# Altium schematic symbol library kmilo17pet-LT_PMIC_LT.SchLib: 2252 symbols (part 109 of 124)
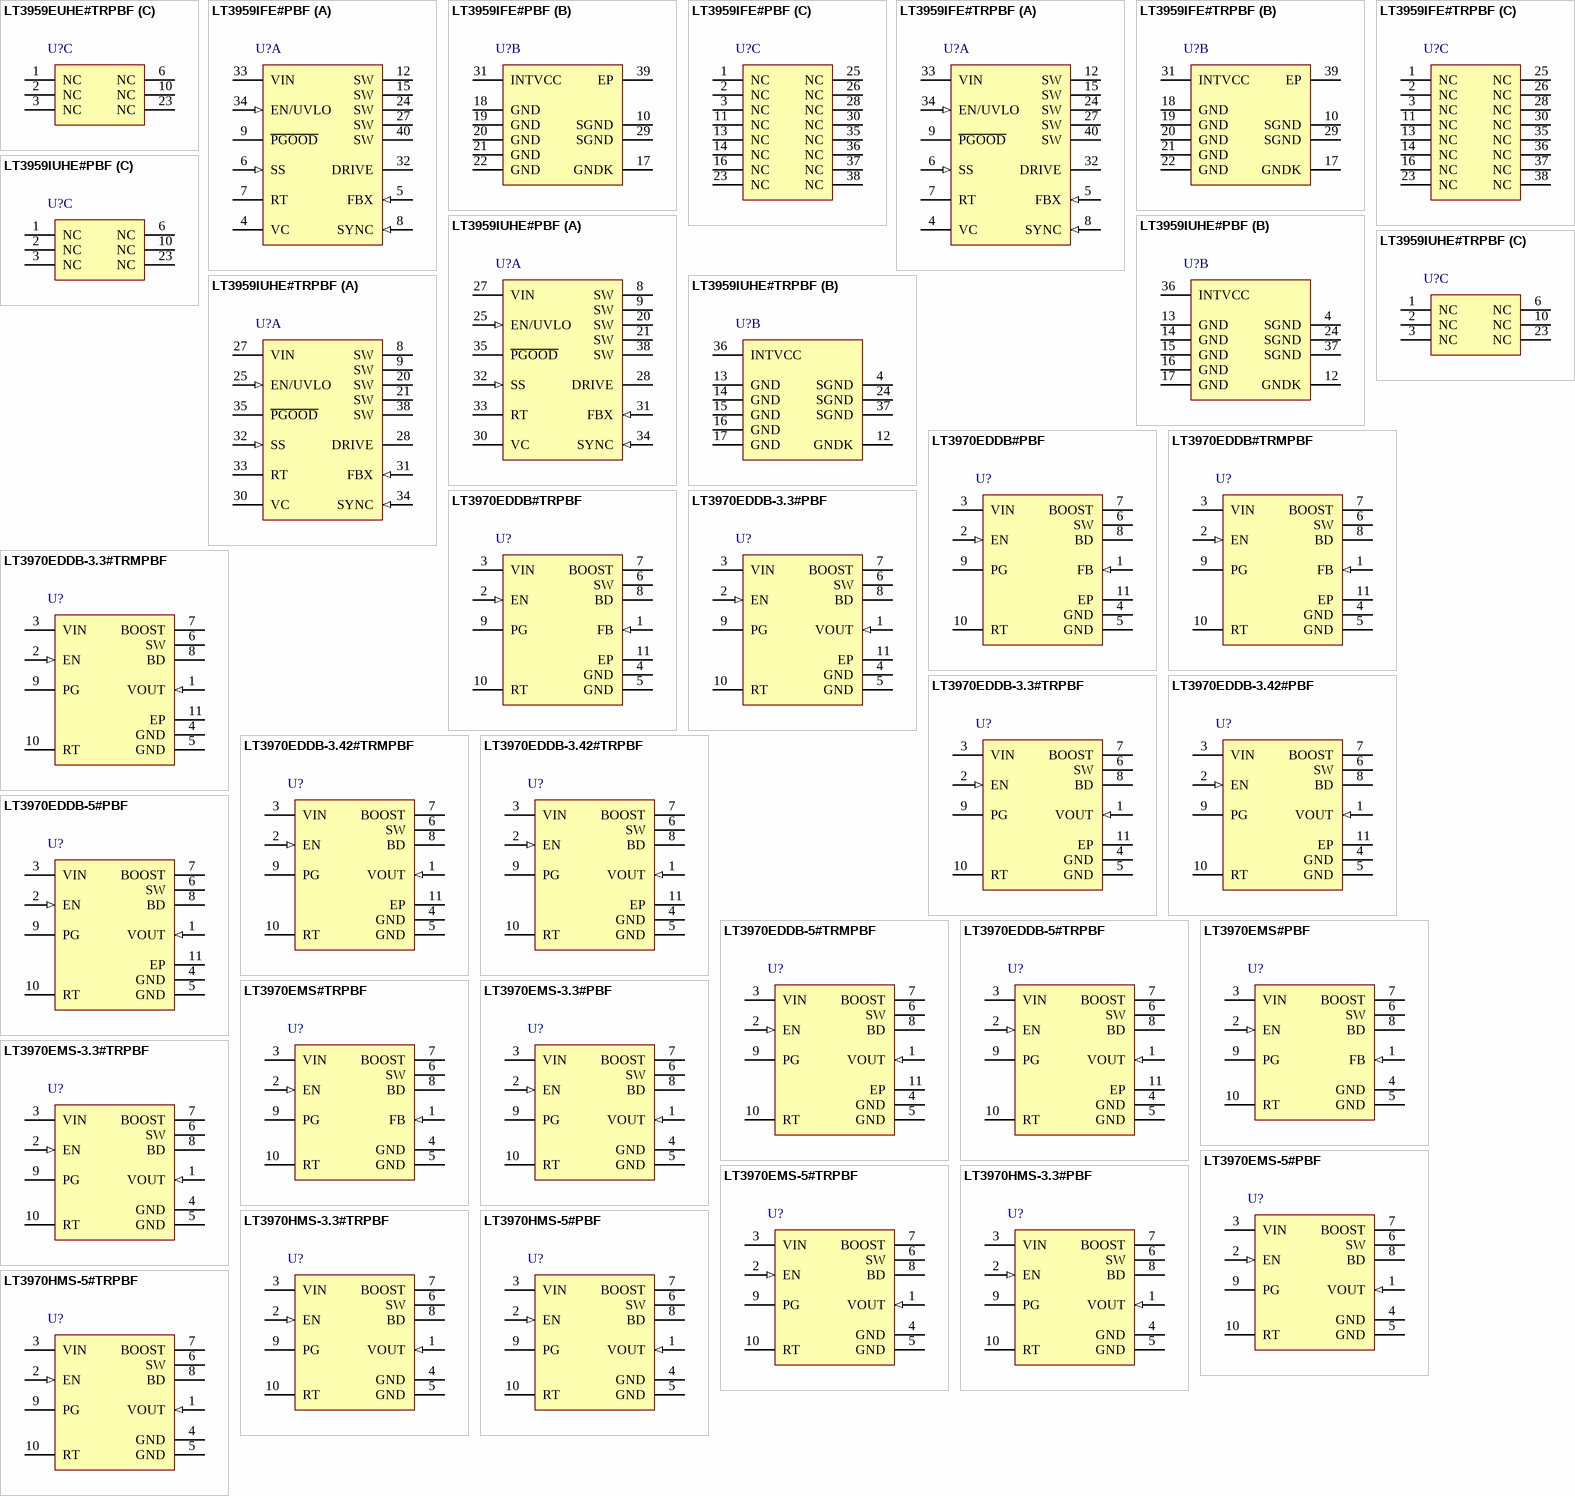
[diagram p179: symbols LT3959EUHE#TRPBF to LT3970HMS-5#TRPBF]

## LT3959EUHE#TRPBF
designator U?
Wide Input Voltage Range Boost / SEPIC / Inverting Converter with 6 A, 40 V Switch, 36-pin QFN (UHE-36-UHE28MA), -40 to 125 degC, Pb-Free, Tape and Reel; Manufacturer: Linear Technology; PartNumber: LT3959EUHE#TRPBF; Number of Outputs: 1; PackageReference: UHE-36; PackageDescription: 28-Pin Plastic QFN, Body 5 x 6 mm, Pitch 0.5 mm; Supplier 1: Digi-Key; Supplier Part Number 1: LT3959EUHE#TRPBF-ND; RoHS: TRUE
footprint LT-UHE-36-V-UHE28MA_V (QFN, 28-Leads, Body 6x5mm, Pitch 0.5mm)
part A pins: 8 SW (power) "Drain of Internal Power N-Channel MOSFET.", 9 SW (power) "Drain of Internal Power N-Channel MOSFET.", 20 SW (power) "Drain of Internal Power N-Channel MOSFET.", 21 SW (power) "Drain of Internal Power N-Channel MOSFET.", 25 EN/UVLO (in) "Shutdown and Undervoltage Detect Pin. An accurate 1.22V (nominal) falling threshold with externally programmable hysteresis detects when power is okay to enable switching. Rising hysteresis is generated by the external (See Datasheet)", 27 VIN (power) "Supply Pin for Internal Leads and the VIN LDO Regulator of INTVCC. Must be locally bypassed to GND with a minimum of 1uF capacitor placed close to this pin.", 28 DRIVE (power) "DRIVE LDO Supply Pin. This pin can be connected to either VIN or a quasi-regulated voltage supply such as a DC converter output. This pin must be bypassed to GND with a minimum of 1uF capacitor placed close to the pin. Tie (See Datasheet)", 30 VC "Error Amplifier Compensation Pin. Used to stabilize the voltage loop with an external RC network. Place compensation components between the VC pin and SGND.", 31 FBX (in) "Voltage Regulation Feedback Pin for Positive or Negative Outputs. Connect this pin to a resistor divider between the output and SGND. FBX is the input of two error amplifiers-one configured to regulate a positive output; the (See Datasheet)", 32 SS (in) "Soft-Start Pin. This pin modulates compensation pin voltage (VC) clamp. The soft-start interval is set with an external capacitor. The pin has a 10uA (typical) pull-up current source to an internal 2.5V rail. The soft-start (See Datasheet)", 33 RT "Switching Frequency Adjustment Pin. Set the frequency using a resistor to SGND. Do not leave the RT pin open.", 34 SYNC (in) "Frequency Synchronization Pin. Used to synchronize the internal oscillator to an outside clock. If this feature is used, an RT resistor should be chosen to program a switching frequency 20% slower than SYNC pulse frequency. (See Datasheet)", 35 ~{PGOOD} (oc) "Output Ready Status Pin. An open-collector pull down on P\G\O\O\D\ asserts when INTVCC is greater than 2.7V and the FBX voltage is within 5% (80mV if VFBX = 1.6V or 40mV if VFBX = -0.8V) of the regulation voltage.", 38 SW (power) "Drain of Internal Power N-Channel MOSFET."
part B pins: 4 SGND (power) "Signal Ground. Must be soldered directly to the signal ground plane. Connect to ground terminal of: external resistor dividers for FBX and EN/UVLO; capacitors for INTVCC, SS, and VC; and resistor RT.", 12 GNDK (power) "Kelvin Connection Pin between GND and SGND. Kelvin connect this pin to the SGND plane close to the IC. See the Board Layout section.", 13 GND (power) "Source Terminal of Switch and the GND Input to the Switch Current Comparator.", 14 GND (power) "Source Terminal of Switch and the GND Input to the Switch Current Comparator.", 15 GND (power) "Source Terminal of Switch and the GND Input to the Switch Current Comparator.", 16 GND (power) "Source Terminal of Switch and the GND Input to the Switch Current Comparator.", 17 GND (power) "Source Terminal of Switch and the GND Input to the Switch Current Comparator.", 24 SGND (power) "Signal Ground. Must be soldered directly to the signal ground plane. Connect to ground terminal of: external resistor dividers for FBX and EN/UVLO; capacitors for INTVCC, SS, and VC; and resistor RT.", 36 INTVCC (power) "Regulated Supply for Internal Loads and Gate Driver. Regulated to 4.75V if powered from DRIVE or regulated to 3.75V if powered from VIN. The INTVCC pin must be bypassed to SGND with a minimum of 4.7uF capacitor placed close (See Datasheet)", 37 SGND (power) "Signal Ground. Must be soldered directly to the signal ground plane. Connect to ground terminal of: external resistor dividers for FBX and EN/UVLO; capacitors for INTVCC, SS, and VC; and resistor RT."
part C pins: 1 NC "No Internal Connection. Leave these pins open or connect them to the adjacent pins.", 2 NC "No Internal Connection. Leave these pins open or connect them to the adjacent pins.", 3 NC "No Internal Connection. Leave these pins open or connect them to the adjacent pins.", 6 NC "No Internal Connection. Leave these pins open or connect them to the adjacent pins.", 10 NC "No Internal Connection. Leave these pins open or connect them to the adjacent pins.", 23 NC "No Internal Connection. Leave these pins open or connect them to the adjacent pins."

## LT3959IFE#PBF
designator U?
Wide Input Voltage Range Boost / SEPIC / Inverting Converter with 6 A, 40 V Switch, 38-pin SOP (FE-38-SEPV-AC), -40 to 125 degC, Pb-Free; Manufacturer: Linear Technology; PartNumber: LT3959IFE#PBF; Number of Outputs: 1; PackageReference: FE-38; PackageDescription: 38-Pin Plastic TSSOP, Body 9.7 x 4.4 mm, Pitch 0.5 mm; Supplier 1: Digi-Key; Supplier Part Number 1: LT3959IFE#PBF-ND; RoHS: TRUE
footprint LT-FE-38-SEPV-AC_N (SOP, 38-Leads, Body 9.8x4.5mm, Pitch 0.5mm, IPC Medium Density)
footprint LT-FE-38-SEPV-AC_L (SOP, 38-Leads, Body 9.8x4.5mm, Pitch 0.5mm, IPC High Density)
footprint LT-FE-38-SEPV-AC_M (SOP, 38-Leads, Body 9.8x4.5mm, Pitch 0.5mm, IPC Low Density)
part A pins: 4 VC "Error Amplifier Compensation Pin. Used to stabilize the voltage loop with an external RC network. Place compensation components between the VC pin and SGND.", 5 FBX (in) "Voltage Regulation Feedback Pin for Positive or Negative Outputs. Connect this pin to a resistor divider between the output and SGND. FBX is the input of two error amplifiers-one configured to regulate a positive output; the (See Datasheet)", 6 SS (in) "Soft-Start Pin. This pin modulates compensation pin voltage (VC) clamp. The soft-start interval is set with an external capacitor. The pin has a 10uA (typical) pull-up current source to an internal 2.5V rail. The soft-start (See Datasheet)", 7 RT "Switching Frequency Adjustment Pin. Set the frequency using a resistor to SGND. Do not leave the RT pin open.", 8 SYNC (in) "Frequency Synchronization Pin. Used to synchronize the internal oscillator to an outside clock. If this feature is used, an RT resistor should be chosen to program a switching frequency 20% slower than SYNC pulse frequency. (See Datasheet)", 9 ~{PGOOD} (oc) "Output Ready Status Pin. An open-collector pull down on P\G\O\O\D\ asserts when INTVCC is greater than 2.7V and the FBX voltage is within 5% (80mV if VFBX = 1.6V or 40mV if VFBX = -0.8V) of the regulation voltage.", 12 SW (power) "Drain of Internal Power N-Channel MOSFET.", 15 SW (power) "Drain of Internal Power N-Channel MOSFET.", 24 SW (power) "Drain of Internal Power N-Channel MOSFET.", 27 SW (power) "Drain of Internal Power N-Channel MOSFET.", 32 DRIVE (power) "DRIVE LDO Supply Pin. This pin can be connected to either VIN or a quasi-regulated voltage supply such as a DC converter output. This pin must be bypassed to GND with a minimum of 1uF capacitor placed close to the pin. Tie (See Datasheet)", 33 VIN (power) "Supply Pin for Internal Leads and the VIN LDO Regulator of INTVCC. Must be locally bypassed to GND with a minimum of 1uF capacitor placed close to this pin.", 34 EN/UVLO (in) "Shutdown and Undervoltage Detect Pin. An accurate 1.22V (nominal) falling threshold with externally programmable hysteresis detects when power is okay to enable switching. Rising hysteresis is generated by the external (See Datasheet)", 40 SW (power) "Drain of Internal Power N-Channel MOSFET."
part B pins: 10 SGND (power) "Signal Ground. Must be soldered directly to the signal ground plane. Connect to ground terminal of: external resistor dividers for FBX and EN/UVLO; capacitors for INTVCC, SS, and VC; and resistor RT.", 17 GNDK (power) "Kelvin Connection Pin between GND and SGND. Kelvin connect this pin to the SGND plane close to the IC. See the Board Layout section.", 18 GND (power) "Source Terminal of Switch and the GND Input to the Switch Current Comparator.", 19 GND (power) "Source Terminal of Switch and the GND Input to the Switch Current Comparator.", 20 GND (power) "Source Terminal of Switch and the GND Input to the Switch Current Comparator.", 21 GND (power) "Source Terminal of Switch and the GND Input to the Switch Current Comparator.", 22 GND (power) "Source Terminal of Switch and the GND Input to the Switch Current Comparator.", 29 SGND (power) "Signal Ground. Must be soldered directly to the signal ground plane. Connect to ground terminal of: external resistor dividers for FBX and EN/UVLO; capacitors for INTVCC, SS, and VC; and resistor RT.", 31 INTVCC (power) "Regulated Supply for Internal Loads and Gate Driver. Regulated to 4.75V if powered from DRIVE or regulated to 3.75V if powered from VIN. The INTVCC pin must be bypassed to SGND with a minimum of 4.7uF capacitor placed close (See Datasheet)", 39 EP (power) "Signal Ground. Must be soldered directly to the signal ground plane. Connect to ground terminal of: external resistor dividers for FBX and EN/UVLO; capacitors for INTVCC, SS, and VC; and resistor RT."
part C pins: 1 NC "No Internal Connection. Leave these pins open or connect them to the adjacent pins.", 2 NC "No Internal Connection. Leave these pins open or connect them to the adjacent pins.", 3 NC "No Internal Connection. Leave these pins open or connect them to the adjacent pins.", 11 NC "No Internal Connection. Leave these pins open or connect them to the adjacent pins.", 13 NC "No Internal Connection. Leave these pins open or connect them to the adjacent pins.", 14 NC "No Internal Connection. Leave these pins open or connect them to the adjacent pins.", 16 NC "No Internal Connection. Leave these pins open or connect them to the adjacent pins.", 23 NC "No Internal Connection. Leave these pins open or connect them to the adjacent pins.", 25 NC "No Internal Connection. Leave these pins open or connect them to the adjacent pins.", 26 NC "No Internal Connection. Leave these pins open or connect them to the adjacent pins.", 28 NC "No Internal Connection. Leave these pins open or connect them to the adjacent pins.", 30 NC "No Internal Connection. Leave these pins open or connect them to the adjacent pins.", 35 NC "No Internal Connection. Leave these pins open or connect them to the adjacent pins.", 36 NC "No Internal Connection. Leave these pins open or connect them to the adjacent pins.", 37 NC "No Internal Connection. Leave these pins open or connect them to the adjacent pins.", 38 NC "No Internal Connection. Leave these pins open or connect them to the adjacent pins."

## LT3959IFE#TRPBF
designator U?
Wide Input Voltage Range Boost / SEPIC / Inverting Converter with 6 A, 40 V Switch, 38-pin SOP (FE-38-SEPV-AC), -40 to 125 degC, Pb-Free, Tape and Reel; Manufacturer: Linear Technology; PartNumber: LT3959IFE#TRPBF; Number of Outputs: 1; PackageReference: FE-38; PackageDescription: 38-Pin Plastic TSSOP, Body 9.7 x 4.4 mm, Pitch 0.5 mm; Supplier 1: Digi-Key; Supplier Part Number 1: LT3959IFE#TRPBF-ND; RoHS: TRUE
footprint LT-FE-38-SEPV-AC_N (SOP, 38-Leads, Body 9.8x4.5mm, Pitch 0.5mm, IPC Medium Density)
footprint LT-FE-38-SEPV-AC_L (SOP, 38-Leads, Body 9.8x4.5mm, Pitch 0.5mm, IPC High Density)
footprint LT-FE-38-SEPV-AC_M (SOP, 38-Leads, Body 9.8x4.5mm, Pitch 0.5mm, IPC Low Density)
part A pins: 4 VC "Error Amplifier Compensation Pin. Used to stabilize the voltage loop with an external RC network. Place compensation components between the VC pin and SGND.", 5 FBX (in) "Voltage Regulation Feedback Pin for Positive or Negative Outputs. Connect this pin to a resistor divider between the output and SGND. FBX is the input of two error amplifiers-one configured to regulate a positive output; the (See Datasheet)", 6 SS (in) "Soft-Start Pin. This pin modulates compensation pin voltage (VC) clamp. The soft-start interval is set with an external capacitor. The pin has a 10uA (typical) pull-up current source to an internal 2.5V rail. The soft-start (See Datasheet)", 7 RT "Switching Frequency Adjustment Pin. Set the frequency using a resistor to SGND. Do not leave the RT pin open.", 8 SYNC (in) "Frequency Synchronization Pin. Used to synchronize the internal oscillator to an outside clock. If this feature is used, an RT resistor should be chosen to program a switching frequency 20% slower than SYNC pulse frequency. (See Datasheet)", 9 ~{PGOOD} (oc) "Output Ready Status Pin. An open-collector pull down on P\G\O\O\D\ asserts when INTVCC is greater than 2.7V and the FBX voltage is within 5% (80mV if VFBX = 1.6V or 40mV if VFBX = -0.8V) of the regulation voltage.", 12 SW (power) "Drain of Internal Power N-Channel MOSFET.", 15 SW (power) "Drain of Internal Power N-Channel MOSFET.", 24 SW (power) "Drain of Internal Power N-Channel MOSFET.", 27 SW (power) "Drain of Internal Power N-Channel MOSFET.", 32 DRIVE (power) "DRIVE LDO Supply Pin. This pin can be connected to either VIN or a quasi-regulated voltage supply such as a DC converter output. This pin must be bypassed to GND with a minimum of 1uF capacitor placed close to the pin. Tie (See Datasheet)", 33 VIN (power) "Supply Pin for Internal Leads and the VIN LDO Regulator of INTVCC. Must be locally bypassed to GND with a minimum of 1uF capacitor placed close to this pin.", 34 EN/UVLO (in) "Shutdown and Undervoltage Detect Pin. An accurate 1.22V (nominal) falling threshold with externally programmable hysteresis detects when power is okay to enable switching. Rising hysteresis is generated by the external (See Datasheet)", 40 SW (power) "Drain of Internal Power N-Channel MOSFET."
part B pins: 10 SGND (power) "Signal Ground. Must be soldered directly to the signal ground plane. Connect to ground terminal of: external resistor dividers for FBX and EN/UVLO; capacitors for INTVCC, SS, and VC; and resistor RT.", 17 GNDK (power) "Kelvin Connection Pin between GND and SGND. Kelvin connect this pin to the SGND plane close to the IC. See the Board Layout section.", 18 GND (power) "Source Terminal of Switch and the GND Input to the Switch Current Comparator.", 19 GND (power) "Source Terminal of Switch and the GND Input to the Switch Current Comparator.", 20 GND (power) "Source Terminal of Switch and the GND Input to the Switch Current Comparator.", 21 GND (power) "Source Terminal of Switch and the GND Input to the Switch Current Comparator.", 22 GND (power) "Source Terminal of Switch and the GND Input to the Switch Current Comparator.", 29 SGND (power) "Signal Ground. Must be soldered directly to the signal ground plane. Connect to ground terminal of: external resistor dividers for FBX and EN/UVLO; capacitors for INTVCC, SS, and VC; and resistor RT.", 31 INTVCC (power) "Regulated Supply for Internal Loads and Gate Driver. Regulated to 4.75V if powered from DRIVE or regulated to 3.75V if powered from VIN. The INTVCC pin must be bypassed to SGND with a minimum of 4.7uF capacitor placed close (See Datasheet)", 39 EP (power) "Signal Ground. Must be soldered directly to the signal ground plane. Connect to ground terminal of: external resistor dividers for FBX and EN/UVLO; capacitors for INTVCC, SS, and VC; and resistor RT."
part C pins: 1 NC "No Internal Connection. Leave these pins open or connect them to the adjacent pins.", 2 NC "No Internal Connection. Leave these pins open or connect them to the adjacent pins.", 3 NC "No Internal Connection. Leave these pins open or connect them to the adjacent pins.", 11 NC "No Internal Connection. Leave these pins open or connect them to the adjacent pins.", 13 NC "No Internal Connection. Leave these pins open or connect them to the adjacent pins.", 14 NC "No Internal Connection. Leave these pins open or connect them to the adjacent pins.", 16 NC "No Internal Connection. Leave these pins open or connect them to the adjacent pins.", 23 NC "No Internal Connection. Leave these pins open or connect them to the adjacent pins.", 25 NC "No Internal Connection. Leave these pins open or connect them to the adjacent pins.", 26 NC "No Internal Connection. Leave these pins open or connect them to the adjacent pins.", 28 NC "No Internal Connection. Leave these pins open or connect them to the adjacent pins.", 30 NC "No Internal Connection. Leave these pins open or connect them to the adjacent pins.", 35 NC "No Internal Connection. Leave these pins open or connect them to the adjacent pins.", 36 NC "No Internal Connection. Leave these pins open or connect them to the adjacent pins.", 37 NC "No Internal Connection. Leave these pins open or connect them to the adjacent pins.", 38 NC "No Internal Connection. Leave these pins open or connect them to the adjacent pins."

## LT3959IUHE#PBF
designator U?
Wide Input Voltage Range Boost / SEPIC / Inverting Converter with 6 A, 40 V Switch, 36-pin QFN (UHE-36-UHE28MA), -40 to 125 degC, Pb-Free; Manufacturer: Linear Technology; PartNumber: LT3959IUHE#PBF; Number of Outputs: 1; PackageReference: UHE-36; PackageDescription: 28-Pin Plastic QFN, Body 5 x 6 mm, Pitch 0.5 mm; Supplier 1: Digi-Key; Supplier Part Number 1: LT3959IUHE#PBF-ND; RoHS: TRUE
footprint LT-UHE-36-V-UHE28MA_V (QFN, 28-Leads, Body 6x5mm, Pitch 0.5mm)
part A pins: 8 SW (power) "Drain of Internal Power N-Channel MOSFET.", 9 SW (power) "Drain of Internal Power N-Channel MOSFET.", 20 SW (power) "Drain of Internal Power N-Channel MOSFET.", 21 SW (power) "Drain of Internal Power N-Channel MOSFET.", 25 EN/UVLO (in) "Shutdown and Undervoltage Detect Pin. An accurate 1.22V (nominal) falling threshold with externally programmable hysteresis detects when power is okay to enable switching. Rising hysteresis is generated by the external (See Datasheet)", 27 VIN (power) "Supply Pin for Internal Leads and the VIN LDO Regulator of INTVCC. Must be locally bypassed to GND with a minimum of 1uF capacitor placed close to this pin.", 28 DRIVE (power) "DRIVE LDO Supply Pin. This pin can be connected to either VIN or a quasi-regulated voltage supply such as a DC converter output. This pin must be bypassed to GND with a minimum of 1uF capacitor placed close to the pin. Tie (See Datasheet)", 30 VC "Error Amplifier Compensation Pin. Used to stabilize the voltage loop with an external RC network. Place compensation components between the VC pin and SGND.", 31 FBX (in) "Voltage Regulation Feedback Pin for Positive or Negative Outputs. Connect this pin to a resistor divider between the output and SGND. FBX is the input of two error amplifiers-one configured to regulate a positive output; the (See Datasheet)", 32 SS (in) "Soft-Start Pin. This pin modulates compensation pin voltage (VC) clamp. The soft-start interval is set with an external capacitor. The pin has a 10uA (typical) pull-up current source to an internal 2.5V rail. The soft-start (See Datasheet)", 33 RT "Switching Frequency Adjustment Pin. Set the frequency using a resistor to SGND. Do not leave the RT pin open.", 34 SYNC (in) "Frequency Synchronization Pin. Used to synchronize the internal oscillator to an outside clock. If this feature is used, an RT resistor should be chosen to program a switching frequency 20% slower than SYNC pulse frequency. (See Datasheet)", 35 ~{PGOOD} (oc) "Output Ready Status Pin. An open-collector pull down on P\G\O\O\D\ asserts when INTVCC is greater than 2.7V and the FBX voltage is within 5% (80mV if VFBX = 1.6V or 40mV if VFBX = -0.8V) of the regulation voltage.", 38 SW (power) "Drain of Internal Power N-Channel MOSFET."
part B pins: 4 SGND (power) "Signal Ground. Must be soldered directly to the signal ground plane. Connect to ground terminal of: external resistor dividers for FBX and EN/UVLO; capacitors for INTVCC, SS, and VC; and resistor RT.", 12 GNDK (power) "Kelvin Connection Pin between GND and SGND. Kelvin connect this pin to the SGND plane close to the IC. See the Board Layout section.", 13 GND (power) "Source Terminal of Switch and the GND Input to the Switch Current Comparator.", 14 GND (power) "Source Terminal of Switch and the GND Input to the Switch Current Comparator.", 15 GND (power) "Source Terminal of Switch and the GND Input to the Switch Current Comparator.", 16 GND (power) "Source Terminal of Switch and the GND Input to the Switch Current Comparator.", 17 GND (power) "Source Terminal of Switch and the GND Input to the Switch Current Comparator.", 24 SGND (power) "Signal Ground. Must be soldered directly to the signal ground plane. Connect to ground terminal of: external resistor dividers for FBX and EN/UVLO; capacitors for INTVCC, SS, and VC; and resistor RT.", 36 INTVCC (power) "Regulated Supply for Internal Loads and Gate Driver. Regulated to 4.75V if powered from DRIVE or regulated to 3.75V if powered from VIN. The INTVCC pin must be bypassed to SGND with a minimum of 4.7uF capacitor placed close (See Datasheet)", 37 SGND (power) "Signal Ground. Must be soldered directly to the signal ground plane. Connect to ground terminal of: external resistor dividers for FBX and EN/UVLO; capacitors for INTVCC, SS, and VC; and resistor RT."
part C pins: 1 NC "No Internal Connection. Leave these pins open or connect them to the adjacent pins.", 2 NC "No Internal Connection. Leave these pins open or connect them to the adjacent pins.", 3 NC "No Internal Connection. Leave these pins open or connect them to the adjacent pins.", 6 NC "No Internal Connection. Leave these pins open or connect them to the adjacent pins.", 10 NC "No Internal Connection. Leave these pins open or connect them to the adjacent pins.", 23 NC "No Internal Connection. Leave these pins open or connect them to the adjacent pins."

## LT3959IUHE#TRPBF
designator U?
Wide Input Voltage Range Boost / SEPIC / Inverting Converter with 6 A, 40 V Switch, 36-pin QFN (UHE-36-UHE28MA), -40 to 125 degC, Pb-Free, Tape and Reel; Manufacturer: Linear Technology; PartNumber: LT3959IUHE#TRPBF; Number of Outputs: 1; PackageReference: UHE-36; PackageDescription: 28-Pin Plastic QFN, Body 5 x 6 mm, Pitch 0.5 mm; Supplier 1: Digi-Key; Supplier Part Number 1: LT3959IUHE#TRPBF-ND; RoHS: TRUE
footprint LT-UHE-36-V-UHE28MA_V (QFN, 28-Leads, Body 6x5mm, Pitch 0.5mm)
part A pins: 8 SW (power) "Drain of Internal Power N-Channel MOSFET.", 9 SW (power) "Drain of Internal Power N-Channel MOSFET.", 20 SW (power) "Drain of Internal Power N-Channel MOSFET.", 21 SW (power) "Drain of Internal Power N-Channel MOSFET.", 25 EN/UVLO (in) "Shutdown and Undervoltage Detect Pin. An accurate 1.22V (nominal) falling threshold with externally programmable hysteresis detects when power is okay to enable switching. Rising hysteresis is generated by the external (See Datasheet)", 27 VIN (power) "Supply Pin for Internal Leads and the VIN LDO Regulator of INTVCC. Must be locally bypassed to GND with a minimum of 1uF capacitor placed close to this pin.", 28 DRIVE (power) "DRIVE LDO Supply Pin. This pin can be connected to either VIN or a quasi-regulated voltage supply such as a DC converter output. This pin must be bypassed to GND with a minimum of 1uF capacitor placed close to the pin. Tie (See Datasheet)", 30 VC "Error Amplifier Compensation Pin. Used to stabilize the voltage loop with an external RC network. Place compensation components between the VC pin and SGND.", 31 FBX (in) "Voltage Regulation Feedback Pin for Positive or Negative Outputs. Connect this pin to a resistor divider between the output and SGND. FBX is the input of two error amplifiers-one configured to regulate a positive output; the (See Datasheet)", 32 SS (in) "Soft-Start Pin. This pin modulates compensation pin voltage (VC) clamp. The soft-start interval is set with an external capacitor. The pin has a 10uA (typical) pull-up current source to an internal 2.5V rail. The soft-start (See Datasheet)", 33 RT "Switching Frequency Adjustment Pin. Set the frequency using a resistor to SGND. Do not leave the RT pin open.", 34 SYNC (in) "Frequency Synchronization Pin. Used to synchronize the internal oscillator to an outside clock. If this feature is used, an RT resistor should be chosen to program a switching frequency 20% slower than SYNC pulse frequency. (See Datasheet)", 35 ~{PGOOD} (oc) "Output Ready Status Pin. An open-collector pull down on P\G\O\O\D\ asserts when INTVCC is greater than 2.7V and the FBX voltage is within 5% (80mV if VFBX = 1.6V or 40mV if VFBX = -0.8V) of the regulation voltage.", 38 SW (power) "Drain of Internal Power N-Channel MOSFET."
part B pins: 4 SGND (power) "Signal Ground. Must be soldered directly to the signal ground plane. Connect to ground terminal of: external resistor dividers for FBX and EN/UVLO; capacitors for INTVCC, SS, and VC; and resistor RT.", 12 GNDK (power) "Kelvin Connection Pin between GND and SGND. Kelvin connect this pin to the SGND plane close to the IC. See the Board Layout section.", 13 GND (power) "Source Terminal of Switch and the GND Input to the Switch Current Comparator.", 14 GND (power) "Source Terminal of Switch and the GND Input to the Switch Current Comparator.", 15 GND (power) "Source Terminal of Switch and the GND Input to the Switch Current Comparator.", 16 GND (power) "Source Terminal of Switch and the GND Input to the Switch Current Comparator.", 17 GND (power) "Source Terminal of Switch and the GND Input to the Switch Current Comparator.", 24 SGND (power) "Signal Ground. Must be soldered directly to the signal ground plane. Connect to ground terminal of: external resistor dividers for FBX and EN/UVLO; capacitors for INTVCC, SS, and VC; and resistor RT.", 36 INTVCC (power) "Regulated Supply for Internal Loads and Gate Driver. Regulated to 4.75V if powered from DRIVE or regulated to 3.75V if powered from VIN. The INTVCC pin must be bypassed to SGND with a minimum of 4.7uF capacitor placed close (See Datasheet)", 37 SGND (power) "Signal Ground. Must be soldered directly to the signal ground plane. Connect to ground terminal of: external resistor dividers for FBX and EN/UVLO; capacitors for INTVCC, SS, and VC; and resistor RT."
part C pins: 1 NC "No Internal Connection. Leave these pins open or connect them to the adjacent pins.", 2 NC "No Internal Connection. Leave these pins open or connect them to the adjacent pins.", 3 NC "No Internal Connection. Leave these pins open or connect them to the adjacent pins.", 6 NC "No Internal Connection. Leave these pins open or connect them to the adjacent pins.", 10 NC "No Internal Connection. Leave these pins open or connect them to the adjacent pins.", 23 NC "No Internal Connection. Leave these pins open or connect them to the adjacent pins."

## LT3970EDDB#PBF
designator U?
350 mA Step-Down Regulator with 2.5 uA Quiescent Current and Integrated Diodes, 10-pin SON (DDB-10), -40 to 125 degC, Pb-Free; Manufacturer: Linear Technology; PartNumber: LT3970EDDB#PBF; Number of Outputs: 1; PackageReference: DDB10; PackageDescription: 10-Pin Plastic DFN, Body 3 x 2 mm, Pitch 0.5 mm; Supplier 1: Newark; Supplier Part Number 1: 78T4063; RoHS: TRUE
footprint LT-DDB-10_V (SON, 10-Leads, Body 3x2mm, Pitch 0.5mm, Thermal Pad 2.39x0.64mm)
pins: 1 FB (in) "The LT3970 Regulates the FB Pin to 1.21V. Connect the feedback resistor divider tap to this pin.", 2 EN (in) "The part is in shutdown when this pin is low and active when this pin is high. The hysteretic threshold voltage is 1V going up and 0.97V going down. Tie to VIN if shutdown feature is not used. The EN threshold is accurate (See Datasheet)", 3 VIN (power) "The VIN pin supplies current to the LT3970’s internal circuitry and to the internal power switch. This pin must be locally bypassed.", 4 GND (power) "Ground. Must be soldered to PCB.", 5 GND (power) "Ground. Must be soldered to PCB.", 6 SW (power) "The SW pin is the output of an internal power switch. Connect this pin to the inductor", 7 BOOST "This pin is used to provide a drive voltage, higher than the input voltage, to the internal bipolar NPN power switch.", 8 BD (power) "This pin connects to the anode of the boost diode. This pin also supplies current to the LT3970’s internal regulator when BD is above 3.2V.", 9 PG (oc) "The PG pin is the open-drain output of an internal comparator. PG remains low until the FB pin is within 10% of the final regulation voltage. PG is valid when VIN is above 4.2V and EN is high.", 10 RT "A resistor is tied between RT and ground to set the switching frequency.", 11 EP (power) "Ground. Must be soldered to PCB."

## LT3970EDDB#TRMPBF
designator U?
350 mA Step-Down Regulator with 2.5 uA Quiescent Current and Integrated Diodes, 10-pin SON (DDB-10), -40 to 125 degC, Pb-Free, Mini Tape and Reel; Manufacturer: Linear Technology; PartNumber: LT3970EDDB#TRMPBF; Number of Outputs: 1; PackageReference: DDB10; PackageDescription: 10-Pin Plastic DFN, Body 3 x 2 mm, Pitch 0.5 mm; Supplier 1: Digi-Key; Supplier Part Number 1: LT3970EDDB#TRMPBF-ND; RoHS: TRUE
footprint LT-DDB-10_V (SON, 10-Leads, Body 3x2mm, Pitch 0.5mm, Thermal Pad 2.39x0.64mm)
pins: 1 FB (in) "The LT3970 Regulates the FB Pin to 1.21V. Connect the feedback resistor divider tap to this pin.", 2 EN (in) "The part is in shutdown when this pin is low and active when this pin is high. The hysteretic threshold voltage is 1V going up and 0.97V going down. Tie to VIN if shutdown feature is not used. The EN threshold is accurate (See Datasheet)", 3 VIN (power) "The VIN pin supplies current to the LT3970’s internal circuitry and to the internal power switch. This pin must be locally bypassed.", 4 GND (power) "Ground. Must be soldered to PCB.", 5 GND (power) "Ground. Must be soldered to PCB.", 6 SW (power) "The SW pin is the output of an internal power switch. Connect this pin to the inductor", 7 BOOST "This pin is used to provide a drive voltage, higher than the input voltage, to the internal bipolar NPN power switch.", 8 BD (power) "This pin connects to the anode of the boost diode. This pin also supplies current to the LT3970’s internal regulator when BD is above 3.2V.", 9 PG (oc) "The PG pin is the open-drain output of an internal comparator. PG remains low until the FB pin is within 10% of the final regulation voltage. PG is valid when VIN is above 4.2V and EN is high.", 10 RT "A resistor is tied between RT and ground to set the switching frequency.", 11 EP (power) "Ground. Must be soldered to PCB."

## LT3970EDDB#TRPBF
designator U?
350 mA Step-Down Regulator with 2.5 uA Quiescent Current and Integrated Diodes, 10-pin SON (DDB-10), -40 to 125 degC, Pb-Free, Tape and Reel; Manufacturer: Linear Technology; PartNumber: LT3970EDDB#TRPBF; Number of Outputs: 1; PackageReference: DDB10; PackageDescription: 10-Pin Plastic DFN, Body 3 x 2 mm, Pitch 0.5 mm; Supplier 1: Digi-Key; Supplier Part Number 1: LT3970EDDB#TRPBF-ND; RoHS: TRUE
footprint LT-DDB-10_V (SON, 10-Leads, Body 3x2mm, Pitch 0.5mm, Thermal Pad 2.39x0.64mm)
pins: 1 FB (in) "The LT3970 Regulates the FB Pin to 1.21V. Connect the feedback resistor divider tap to this pin.", 2 EN (in) "The part is in shutdown when this pin is low and active when this pin is high. The hysteretic threshold voltage is 1V going up and 0.97V going down. Tie to VIN if shutdown feature is not used. The EN threshold is accurate (See Datasheet)", 3 VIN (power) "The VIN pin supplies current to the LT3970’s internal circuitry and to the internal power switch. This pin must be locally bypassed.", 4 GND (power) "Ground. Must be soldered to PCB.", 5 GND (power) "Ground. Must be soldered to PCB.", 6 SW (power) "The SW pin is the output of an internal power switch. Connect this pin to the inductor", 7 BOOST "This pin is used to provide a drive voltage, higher than the input voltage, to the internal bipolar NPN power switch.", 8 BD (power) "This pin connects to the anode of the boost diode. This pin also supplies current to the LT3970’s internal regulator when BD is above 3.2V.", 9 PG (oc) "The PG pin is the open-drain output of an internal comparator. PG remains low until the FB pin is within 10% of the final regulation voltage. PG is valid when VIN is above 4.2V and EN is high.", 10 RT "A resistor is tied between RT and ground to set the switching frequency.", 11 EP (power) "Ground. Must be soldered to PCB."

## LT3970EDDB-3.3#PBF
designator U?
350 mA Step-Down Regulator with 2.5 uA Quiescent Current and Integrated Diodes, 10-pin SON (DDB-10), -40 to 125 degC, Pb-Free; Manufacturer: Linear Technology; PartNumber: LT3970EDDB-3.3#PBF; Number of Outputs: 1; PackageReference: DDB10; PackageDescription: 10-Pin Plastic DFN, Body 3 x 2 mm, Pitch 0.5 mm; Supplier 1: Farnell; Supplier Part Number 1: 2102656; RoHS: TRUE
footprint LT-DDB-10_V (SON, 10-Leads, Body 3x2mm, Pitch 0.5mm, Thermal Pad 2.39x0.64mm)
pins: 1 VOUT (in) "The LT3970-3.3, LT3970-3.42 and LT3970-5 regulate the VOUT Pin to 3.3V, 3.42V and 5V respectively. This pin connects to the internal feedback divider that programs the fixed output voltage.", 2 EN (in) "The part is in shutdown when this pin is low and active when this pin is high. The hysteretic threshold voltage is 1V going up and 0.97V going down. Tie to VIN if shutdown feature is not used. The EN threshold is accurate (See Datasheet)", 3 VIN (power) "The VIN pin supplies current to the LT3970’s internal circuitry and to the internal power switch. This pin must be locally bypassed.", 4 GND (power) "Ground. Must be soldered to PCB.", 5 GND (power) "Ground. Must be soldered to PCB.", 6 SW (power) "The SW pin is the output of an internal power switch. Connect this pin to the inductor.", 7 BOOST "This pin is used to provide a drive voltage, higher than the input voltage, to the internal bipolar NPN power switch.", 8 BD (power) "This pin connects to the anode of the boost diode. This pin also supplies current to the LT3970’s internal regulator when BD is above 3.2V.", 9 PG (oc) "The PG pin is the open-drain output of an internal comparator. PG remains low until the FB pin is within 10% of the final regulation voltage. PG is valid when VIN is above 4.2V and EN is high.", 10 RT "A resistor is tied between RT and ground to set the switching frequency.", 11 EP (power) "Ground. Must be soldered to PCB."

## LT3970EDDB-3.3#TRMPBF
designator U?
350 mA Step-Down Regulator with 2.5 uA Quiescent Current and Integrated Diodes, 10-pin SON (DDB-10), -40 to 125 degC, Pb-Free, Mini Tape and Reel; Manufacturer: Linear Technology; PartNumber: LT3970EDDB-3.3#TRMPBF; Number of Outputs: 1; PackageReference: DDB10; PackageDescription: 10-Pin Plastic DFN, Body 3 x 2 mm, Pitch 0.5 mm; Supplier 1: Digi-Key; Supplier Part Number 1: LT3970EDDB-3.3#TRMPBFTR-ND; RoHS: TRUE
footprint LT-DDB-10_V (SON, 10-Leads, Body 3x2mm, Pitch 0.5mm, Thermal Pad 2.39x0.64mm)
pins: 1 VOUT (in) "The LT3970-3.3, LT3970-3.42 and LT3970-5 regulate the VOUT Pin to 3.3V, 3.42V and 5V respectively. This pin connects to the internal feedback divider that programs the fixed output voltage.", 2 EN (in) "The part is in shutdown when this pin is low and active when this pin is high. The hysteretic threshold voltage is 1V going up and 0.97V going down. Tie to VIN if shutdown feature is not used. The EN threshold is accurate (See Datasheet)", 3 VIN (power) "The VIN pin supplies current to the LT3970’s internal circuitry and to the internal power switch. This pin must be locally bypassed.", 4 GND (power) "Ground. Must be soldered to PCB.", 5 GND (power) "Ground. Must be soldered to PCB.", 6 SW (power) "The SW pin is the output of an internal power switch. Connect this pin to the inductor.", 7 BOOST "This pin is used to provide a drive voltage, higher than the input voltage, to the internal bipolar NPN power switch.", 8 BD (power) "This pin connects to the anode of the boost diode. This pin also supplies current to the LT3970’s internal regulator when BD is above 3.2V.", 9 PG (oc) "The PG pin is the open-drain output of an internal comparator. PG remains low until the FB pin is within 10% of the final regulation voltage. PG is valid when VIN is above 4.2V and EN is high.", 10 RT "A resistor is tied between RT and ground to set the switching frequency.", 11 EP (power) "Ground. Must be soldered to PCB."

## LT3970EDDB-3.3#TRPBF
designator U?
350 mA Step-Down Regulator with 2.5 uA Quiescent Current and Integrated Diodes, 10-pin SON (DDB-10), -40 to 125 degC, Pb-Free, Tape and Reel; Manufacturer: Linear Technology; PartNumber: LT3970EDDB-3.3#TRPBF; Number of Outputs: 1; PackageReference: DDB10; PackageDescription: 10-Pin Plastic DFN, Body 3 x 2 mm, Pitch 0.5 mm; Supplier 1: Digi-Key; Supplier Part Number 1: LT3970EDDB-3.3#TRPBF-ND; RoHS: TRUE
footprint LT-DDB-10_V (SON, 10-Leads, Body 3x2mm, Pitch 0.5mm, Thermal Pad 2.39x0.64mm)
pins: 1 VOUT (in) "The LT3970-3.3, LT3970-3.42 and LT3970-5 regulate the VOUT Pin to 3.3V, 3.42V and 5V respectively. This pin connects to the internal feedback divider that programs the fixed output voltage.", 2 EN (in) "The part is in shutdown when this pin is low and active when this pin is high. The hysteretic threshold voltage is 1V going up and 0.97V going down. Tie to VIN if shutdown feature is not used. The EN threshold is accurate (See Datasheet)", 3 VIN (power) "The VIN pin supplies current to the LT3970’s internal circuitry and to the internal power switch. This pin must be locally bypassed.", 4 GND (power) "Ground. Must be soldered to PCB.", 5 GND (power) "Ground. Must be soldered to PCB.", 6 SW (power) "The SW pin is the output of an internal power switch. Connect this pin to the inductor.", 7 BOOST "This pin is used to provide a drive voltage, higher than the input voltage, to the internal bipolar NPN power switch.", 8 BD (power) "This pin connects to the anode of the boost diode. This pin also supplies current to the LT3970’s internal regulator when BD is above 3.2V.", 9 PG (oc) "The PG pin is the open-drain output of an internal comparator. PG remains low until the FB pin is within 10% of the final regulation voltage. PG is valid when VIN is above 4.2V and EN is high.", 10 RT "A resistor is tied between RT and ground to set the switching frequency.", 11 EP (power) "Ground. Must be soldered to PCB."

## LT3970EDDB-3.42#PBF
designator U?
350 mA Step-Down Regulator with 2.5 uA Quiescent Current and Integrated Diodes, 10-pin SON (DDB-10), -40 to 125 degC, Pb-Free; Manufacturer: Linear Technology; PartNumber: LT3970EDDB-3.42#PBF; Number of Outputs: 1; PackageReference: DDB10; PackageDescription: 10-Pin Plastic DFN, Body 3 x 2 mm, Pitch 0.5 mm; RoHS: TRUE
footprint LT-DDB-10_V (SON, 10-Leads, Body 3x2mm, Pitch 0.5mm, Thermal Pad 2.39x0.64mm)
pins: 1 VOUT (in) "The LT3970-3.3, LT3970-3.42 and LT3970-5 regulate the VOUT Pin to 3.3V, 3.42V and 5V respectively. This pin connects to the internal feedback divider that programs the fixed output voltage.", 2 EN (in) "The part is in shutdown when this pin is low and active when this pin is high. The hysteretic threshold voltage is 1V going up and 0.97V going down. Tie to VIN if shutdown feature is not used. The EN threshold is accurate (See Datasheet)", 3 VIN (power) "The VIN pin supplies current to the LT3970’s internal circuitry and to the internal power switch. This pin must be locally bypassed.", 4 GND (power) "Ground. Must be soldered to PCB.", 5 GND (power) "Ground. Must be soldered to PCB.", 6 SW (power) "The SW pin is the output of an internal power switch. Connect this pin to the inductor.", 7 BOOST "This pin is used to provide a drive voltage, higher than the input voltage, to the internal bipolar NPN power switch.", 8 BD (power) "This pin connects to the anode of the boost diode. This pin also supplies current to the LT3970’s internal regulator when BD is above 3.2V.", 9 PG (oc) "The PG pin is the open-drain output of an internal comparator. PG remains low until the FB pin is within 10% of the final regulation voltage. PG is valid when VIN is above 4.2V and EN is high.", 10 RT "A resistor is tied between RT and ground to set the switching frequency.", 11 EP (power) "Ground. Must be soldered to PCB."

## LT3970EDDB-3.42#TRMPBF
designator U?
350 mA Step-Down Regulator with 2.5 uA Quiescent Current and Integrated Diodes, 10-pin SON (DDB-10), -40 to 125 degC, Pb-Free, Mini Tape and Reel; Manufacturer: Linear Technology; PartNumber: LT3970EDDB-3.42#TRMPBF; Number of Outputs: 1; PackageReference: DDB10; PackageDescription: 10-Pin Plastic DFN, Body 3 x 2 mm, Pitch 0.5 mm; Supplier 1: Digi-Key; Supplier Part Number 1: LT3970EDDB-3.42#TRMPBF-ND; RoHS: TRUE
footprint LT-DDB-10_V (SON, 10-Leads, Body 3x2mm, Pitch 0.5mm, Thermal Pad 2.39x0.64mm)
pins: 1 VOUT (in) "The LT3970-3.3, LT3970-3.42 and LT3970-5 regulate the VOUT Pin to 3.3V, 3.42V and 5V respectively. This pin connects to the internal feedback divider that programs the fixed output voltage.", 2 EN (in) "The part is in shutdown when this pin is low and active when this pin is high. The hysteretic threshold voltage is 1V going up and 0.97V going down. Tie to VIN if shutdown feature is not used. The EN threshold is accurate (See Datasheet)", 3 VIN (power) "The VIN pin supplies current to the LT3970’s internal circuitry and to the internal power switch. This pin must be locally bypassed.", 4 GND (power) "Ground. Must be soldered to PCB.", 5 GND (power) "Ground. Must be soldered to PCB.", 6 SW (power) "The SW pin is the output of an internal power switch. Connect this pin to the inductor.", 7 BOOST "This pin is used to provide a drive voltage, higher than the input voltage, to the internal bipolar NPN power switch.", 8 BD (power) "This pin connects to the anode of the boost diode. This pin also supplies current to the LT3970’s internal regulator when BD is above 3.2V.", 9 PG (oc) "The PG pin is the open-drain output of an internal comparator. PG remains low until the FB pin is within 10% of the final regulation voltage. PG is valid when VIN is above 4.2V and EN is high.", 10 RT "A resistor is tied between RT and ground to set the switching frequency.", 11 EP (power) "Ground. Must be soldered to PCB."

## LT3970EDDB-3.42#TRPBF
designator U?
350 mA Step-Down Regulator with 2.5 uA Quiescent Current and Integrated Diodes, 10-pin SON (DDB-10), -40 to 125 degC, Pb-Free, Tape and Reel; Manufacturer: Linear Technology; PartNumber: LT3970EDDB-3.42#TRPBF; Number of Outputs: 1; PackageReference: DDB10; PackageDescription: 10-Pin Plastic DFN, Body 3 x 2 mm, Pitch 0.5 mm; Supplier 1: Digi-Key; Supplier Part Number 1: LT3970EDDB-3.42#TRPBF-ND; RoHS: TRUE
footprint LT-DDB-10_V (SON, 10-Leads, Body 3x2mm, Pitch 0.5mm, Thermal Pad 2.39x0.64mm)
pins: 1 VOUT (in) "The LT3970-3.3, LT3970-3.42 and LT3970-5 regulate the VOUT Pin to 3.3V, 3.42V and 5V respectively. This pin connects to the internal feedback divider that programs the fixed output voltage.", 2 EN (in) "The part is in shutdown when this pin is low and active when this pin is high. The hysteretic threshold voltage is 1V going up and 0.97V going down. Tie to VIN if shutdown feature is not used. The EN threshold is accurate (See Datasheet)", 3 VIN (power) "The VIN pin supplies current to the LT3970’s internal circuitry and to the internal power switch. This pin must be locally bypassed.", 4 GND (power) "Ground. Must be soldered to PCB.", 5 GND (power) "Ground. Must be soldered to PCB.", 6 SW (power) "The SW pin is the output of an internal power switch. Connect this pin to the inductor.", 7 BOOST "This pin is used to provide a drive voltage, higher than the input voltage, to the internal bipolar NPN power switch.", 8 BD (power) "This pin connects to the anode of the boost diode. This pin also supplies current to the LT3970’s internal regulator when BD is above 3.2V.", 9 PG (oc) "The PG pin is the open-drain output of an internal comparator. PG remains low until the FB pin is within 10% of the final regulation voltage. PG is valid when VIN is above 4.2V and EN is high.", 10 RT "A resistor is tied between RT and ground to set the switching frequency.", 11 EP (power) "Ground. Must be soldered to PCB."

## LT3970EDDB-5#PBF
designator U?
350 mA Step-Down Regulator with 2.5 uA Quiescent Current and Integrated Diodes, 10-pin SON (DDB-10), -40 to 125 degC, Pb-Free; Manufacturer: Linear Technology; PartNumber: LT3970EDDB-5#PBF; Number of Outputs: 1; PackageReference: DDB10; PackageDescription: 10-Pin Plastic DFN, Body 3 x 2 mm, Pitch 0.5 mm; Supplier 1: Newark; Supplier Part Number 1: 78T4062; RoHS: TRUE
footprint LT-DDB-10_V (SON, 10-Leads, Body 3x2mm, Pitch 0.5mm, Thermal Pad 2.39x0.64mm)
pins: 1 VOUT (in) "The LT3970-3.3, LT3970-3.42 and LT3970-5 regulate the VOUT Pin to 3.3V, 3.42V and 5V respectively. This pin connects to the internal feedback divider that programs the fixed output voltage.", 2 EN (in) "The part is in shutdown when this pin is low and active when this pin is high. The hysteretic threshold voltage is 1V going up and 0.97V going down. Tie to VIN if shutdown feature is not used. The EN threshold is accurate (See Datasheet)", 3 VIN (power) "The VIN pin supplies current to the LT3970’s internal circuitry and to the internal power switch. This pin must be locally bypassed.", 4 GND (power) "Ground. Must be soldered to PCB.", 5 GND (power) "Ground. Must be soldered to PCB.", 6 SW (power) "The SW pin is the output of an internal power switch. Connect this pin to the inductor.", 7 BOOST "This pin is used to provide a drive voltage, higher than the input voltage, to the internal bipolar NPN power switch.", 8 BD (power) "This pin connects to the anode of the boost diode. This pin also supplies current to the LT3970’s internal regulator when BD is above 3.2V.", 9 PG (oc) "The PG pin is the open-drain output of an internal comparator. PG remains low until the FB pin is within 10% of the final regulation voltage. PG is valid when VIN is above 4.2V and EN is high.", 10 RT "A resistor is tied between RT and ground to set the switching frequency.", 11 EP (power) "Ground. Must be soldered to PCB."

## LT3970EDDB-5#TRMPBF
designator U?
350 mA Step-Down Regulator with 2.5 uA Quiescent Current and Integrated Diodes, 10-pin SON (DDB-10), -40 to 125 degC, Pb-Free, Mini Tape and Reel; Manufacturer: Linear Technology; PartNumber: LT3970EDDB-5#TRMPBF; Number of Outputs: 1; PackageReference: DDB10; PackageDescription: 10-Pin Plastic DFN, Body 3 x 2 mm, Pitch 0.5 mm; Supplier 1: Digi-Key; Supplier Part Number 1: LT3970EDDB-5#TRMPBF-ND; RoHS: TRUE
footprint LT-DDB-10_V (SON, 10-Leads, Body 3x2mm, Pitch 0.5mm, Thermal Pad 2.39x0.64mm)
pins: 1 VOUT (in) "The LT3970-3.3, LT3970-3.42 and LT3970-5 regulate the VOUT Pin to 3.3V, 3.42V and 5V respectively. This pin connects to the internal feedback divider that programs the fixed output voltage.", 2 EN (in) "The part is in shutdown when this pin is low and active when this pin is high. The hysteretic threshold voltage is 1V going up and 0.97V going down. Tie to VIN if shutdown feature is not used. The EN threshold is accurate (See Datasheet)", 3 VIN (power) "The VIN pin supplies current to the LT3970’s internal circuitry and to the internal power switch. This pin must be locally bypassed.", 4 GND (power) "Ground. Must be soldered to PCB.", 5 GND (power) "Ground. Must be soldered to PCB.", 6 SW (power) "The SW pin is the output of an internal power switch. Connect this pin to the inductor.", 7 BOOST "This pin is used to provide a drive voltage, higher than the input voltage, to the internal bipolar NPN power switch.", 8 BD (power) "This pin connects to the anode of the boost diode. This pin also supplies current to the LT3970’s internal regulator when BD is above 3.2V.", 9 PG (oc) "The PG pin is the open-drain output of an internal comparator. PG remains low until the FB pin is within 10% of the final regulation voltage. PG is valid when VIN is above 4.2V and EN is high.", 10 RT "A resistor is tied between RT and ground to set the switching frequency.", 11 EP (power) "Ground. Must be soldered to PCB."